# Altium schematic symbol library Schottky diode.SchLib: 1 symbol
Pins are listed as number, name and electrical type; pins without a type are passive.

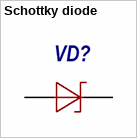
[diagram p0: symbol Schottky diode]

## Schottky diode
designator VD?, comment Диод Шоттки  (value not drawn)
pins: 1, 2